# EAGLE library part TI-LM25011MYX/NOPB (library ClintonLib)
6-42Vin 2A Buck Regulator
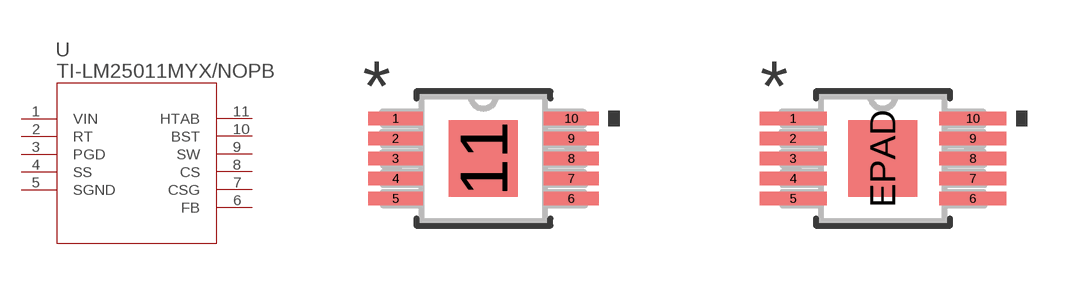
[diagram p21: symbol with the pads of MUC10A; footprints MUC10A, MUC10A-M]

Designator prefix U

## TI-LM25011MYX/NOPB (MANUFACTURER_PART_NUMBER: LM25011MYXNOPB; VENDOR: Texas Instruments)  [MUC10A]
1  VIN  pas
2  RT  pas
3  PGD  pas
4  SS  pas
5  SGND  pas
6  FB  pas
7  CSG  pas
8  CS  pas
9  SW  pas
10  BST  pas
11  HTAB  pas

## TI-LM25011MYX/NOPBMUC10A-M (MANUFACTURER_PART_NUMBER: LM25011MYXNOPB; VENDOR: Texas Instruments)  [MUC10A-M]
1  VIN  pas
2  RT  pas
3  PGD  pas
4  SS  pas
5  SGND  pas
6  FB  pas
7  CSG  pas
8  CS  pas
9  SW  pas
10  BST  pas

## TI-LM25011MYX/NOPBMUC10A-L (MANUFACTURER_PART_NUMBER: LM25011MYXNOPB; VENDOR: Texas Instruments)  [MUC10A-L]
Pads as for MUC10A-M

## Footprint MUC10A (pad centres in mm)
smd 1.372 x 0.33: 1 -2.197,1.001; 2 -2.197,0.5; 3 -2.197,0; 4 -2.197,-0.5; 5 -2.197,-1.001; 6 2.197,-1.001; 7 2.197,-0.5; 8 2.197,0; 9 2.197,0.5; 10 2.197,1.001
smd 1.727 x 1.905: 11 0,0

## Footprint MUC10A-M (pad centres in mm)
smd 1.676 x 0.33: 1 -2.248,1.001; 2 -2.248,0.5; 3 -2.248,0; 4 -2.248,-0.5; 5 -2.248,-1.001; 6 2.248,-1.001; 7 2.248,-0.5; 8 2.248,0; 9 2.248,0.5; 10 2.248,1.001
smd 1.727 x 1.905: EPAD 0,0

## Footprint MUC10A-L (pad centres in mm)
smd 1.067 x 0.33: 1 -2.146,1.001; 2 -2.146,0.5; 3 -2.146,0; 4 -2.146,-0.5; 5 -2.146,-1.001; 6 2.146,-1.001; 7 2.146,-0.5; 8 2.146,0; 9 2.146,0.5; 10 2.146,1.001
smd 1.727 x 1.905: EPAD 0,0